# Altium footprint library QUT EESS Footprints.PcbLib: 29 footprints (part 2 of 2)
Each footprint in its own frame and in the unit in brackets; x right, y up, seen from the top. Pads: shape width x height; smd on the part's side, far side on the other; paste and mask are expansions set on the pad; w line width, h text height; cw(c..) or ccw(c..) is an arc to the next point about the centre after c.
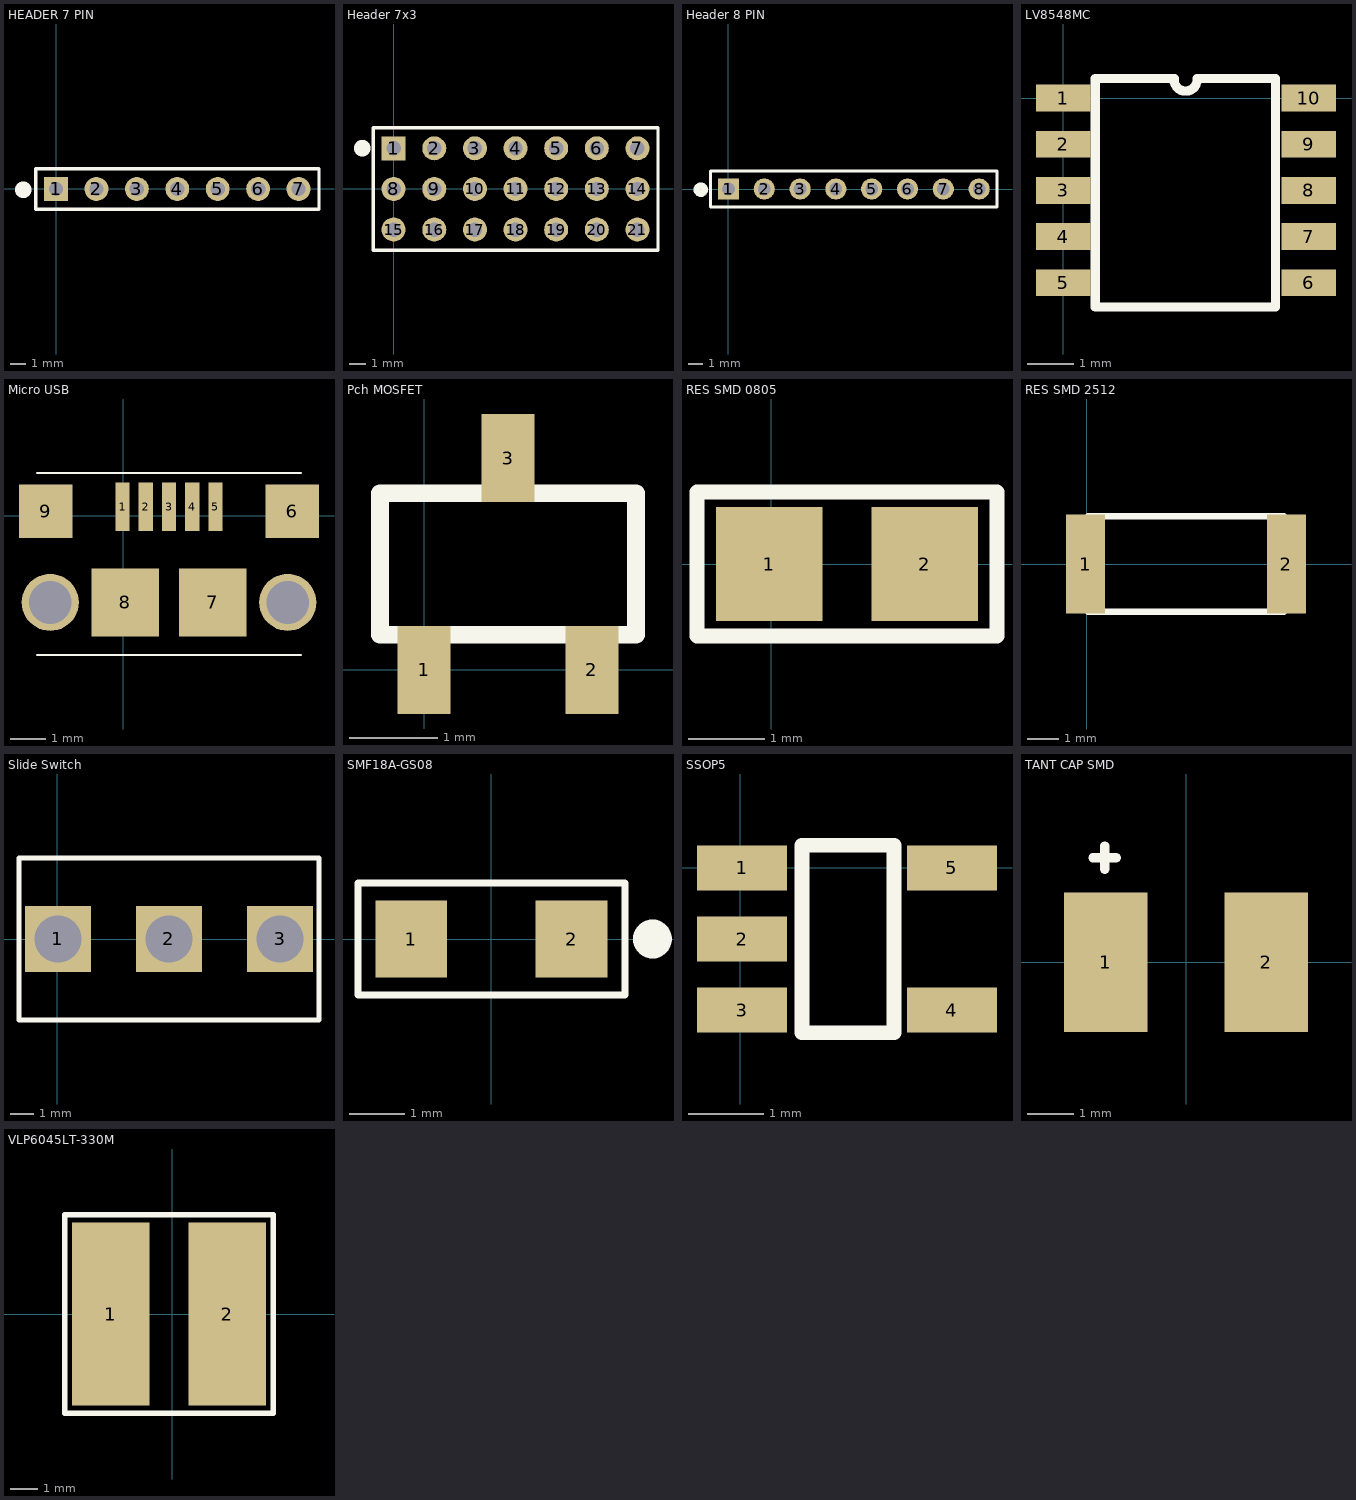
[diagram p1: the footprints below, top view; thin cyan lines are the x and y axes]

## HEADER 7 PIN [mm]
pads (7):
  rect 1.5x1.5 hole 0.9: 1(0,0)
  round 1.5 hole 0.9: 2(2.54,0) 3(5.08,0) 4(7.62,0) 5(10.16,0) 6(12.7,0) 7(15.24,0)
Top Overlay:
  lines w0.2: -1.275,-1.275 16.525,-1.275 16.525,1.27 -1.275,1.27 -1.275,-1.275
  lines w0.5: -1.8,-0.1 cw(c-2.061,-0.052) -1.796,-0.052
3D body: height 8.5, standoff 0, extent -1.4,-1.375 16.65,1.375

## Header 7x3 [mm] "Standard 2.54mm pitch 7x3 pin NOTE PIN NUMBERING"
pads (21):
  rect 1.5x1.5 hole 0.9: 1(0,2.54)
  round 1.5 hole 0.9: 2(2.54,2.54) 3(5.08,2.54) 4(7.62,2.54) 5(10.16,2.54) 6(12.7,2.54) 7(15.24,2.54) 8(0,0) 9(2.54,0) 10(5.08,0) 11(7.62,0) 12(10.16,0) 13(12.7,0) 14(15.24,0) 15(0,-2.54) 16(2.54,-2.54) 17(5.08,-2.54) 18(7.62,-2.54) 19(10.16,-2.54) 20(12.7,-2.54) 21(15.24,-2.54)
Top Overlay:
  lines w0.2: -1.275,-1.28 -1.275,-3.825 16.525,-3.825 16.525,-1.28 ; -1.275,-1.275 -1.275,1.27 ; -1.275,1.275 -1.275,3.82 16.525,3.82 16.525,1.275 ; 16.525,-1.275 16.525,1.27
  lines w0.5: -1.7,2.5 cw(c-1.961,2.548) -1.696,2.548
3D body: height 8.5, standoff 0, extent -1.325,-3.75 16.725,3.75

## Header 8 PIN [mm]
pads (8):
  rect 1.5x1.5 hole 0.9: 1(0,0)
  round 1.5 hole 0.9: 2(2.54,0) 3(5.08,0) 4(7.62,0) 5(10.16,0) 6(12.7,0) 7(15.24,0) 8(17.78,0)
Top Overlay:
  lines w0.2: 19.05,1.27 -1.275,1.27 -1.275,-1.275 19.05,-1.275 19.05,1.275
  lines w0.5: -1.704,-0.098 cw(c-1.966,-0.05) -1.7,-0.05
3D body: height 8.5, standoff -10.46, extent -1.27,-1.27 19.05,1.27

## LV8548MC [mm]
pads (10):
  rect 1.18x0.58 smd: 1(0,0) 2(0,-1) 3(0,-2) 4(0,-3) 5(0,-4) 6(5.32,-4) 7(5.32,-3) 8(5.32,-2) 9(5.32,-1) 10(5.32,0)
Top Overlay:
  lines w0.2: 0.695,-4.525 0.695,0.4 ; 0.695,0.425 2.41,0.425 ; 0.7,-4.525 4.6,-4.525 4.6,0.425 2.9,0.425 ; 2.4,0.4 ccw(c2.65,0.4) 2.9,0.4
3D body: height 1.5, standoff 0, extent 0.6,-4.625 4.7,0.525

## Micro USB [mm]
pads (11):
  rect 0.4x1.35 smd: 1(-0.025,0.25) 2(0.625,0.25) 3(1.275,0.25) 4(1.925,0.25) 5(2.575,0.25)
  rect 1.5x1.5 smd: 6(4.725,0.125) 9(-2.175,0.125)
  rect 1.9x1.9 smd: 7(2.5,-2.425) 8(0.05,-2.425)
  round 1.6 hole 1.2: ""(-2.05,-2.425) ""(4.6,-2.425)
Top Overlay:
  lines w0.05: -2.425,-3.9 1.275,-3.9 4.975,-3.9 ; -2.425,1.2 1.275,1.2 4.975,1.2
3D body: height 2.74, standoff -0.34, extent -2.73,-5.12 5.27,0.48

## Pch MOSFET [mm] "RRR030P03 30V 3A PMOSFET"
pads (3):
  rect 0.6x1 smd: 1(0,0) 2(1.9,0) 3(0.95,2.4)
Top Overlay:
  lines w0.2: -0.5,0.4 -0.5,2 2.4,2 2.4,0.4 -0.5,0.4
3D body: height 1, standoff 0, extent -0.5,0.4 2.4,2

## RES SMD 0805 [mm] "Standard 0805 (imp)/2012 (met) passive footprint"
pads (2):
  rect 1.4x1.5 smd: 1(-0.025,0) 2(2.025,0)
Top Overlay:
  lines w0.2: -0.975,-0.95 -0.975,0.95 2.975,0.95 2.975,-0.95 -0.975,-0.95
3D body: height 0.5, standoff 0, extent 0,-0.625 2,0.625

## RES SMD 2512 [mm] "Standard SMD 2512 footprint"
pads (2):
  rect 1.245x3.175 smd: 1(-0.025,0) 2(6.375,0)
Top Overlay:
  lines w0.2: 0.05,-1.525 6.3,-1.525 6.3,1.525 0.05,1.525 0.05,-1.525
3D body: height 0.55, standoff 0, extent 0.025,-1.55 6.325,1.55

## Slide Switch [mm] "CS12ANW03 Single Pole"
pads (3):
  rect 2.8x2.8 hole 2: 1(0.025,0.025) 2(4.725,0.025) 3(9.425,0.025)
Top Overlay:
  lines w0.2: -1.625,-3.41 -1.625,3.45 11.075,3.45 11.075,-3.41 -1.625,-3.41
3D body: height 13.61, standoff -4.3, extent -2.323,-3.49 11.673,3.825

## SMF18A-GS08 [mm]
pads (2):
  rect 1.3x1.4 smd: 1(-1.45,0) 2(1.45,0)
Top Overlay:
  circle w0.5: c2.91,0 r0.1
  lines w0.127: -2.413,-1.016 -1.27,-1.016 1.27,-1.016 2.413,-1.016 2.413,1.016 1.27,1.016 -1.27,1.016 -2.413,1.016 -2.413,-1.016

## SSOP5 [mm] "Logical OR Gate TC4S71FT5LFT"
pads (5):
  rect 1.2x0.6 smd: 1(0.025,0) 2(0.025,-0.95) 3(0.025,-1.9) 4(2.825,-1.9) 5(2.825,0)
Top Overlay:
  lines w0.2: 0.825,-2.2 2.05,-2.2 2.05,0.3 0.825,0.3 0.825,-2.2
3D body: height 1.1, standoff 0, extent 0.725,-2.3 2.125,0.4

## TANT CAP SMD [mm] "293D156X9025B2TE3 Case B"
height 1.9
pads (2):
  rect 1.8x3 smd: 1(-1.725,0) 2(1.725,0)
Top Overlay:
  lines w0.2: -2,2.25 -1.5,2.25 ; -1.75,2 -1.75,2.5
3D body: height 1.8, standoff 0, extent -1.712,-1.387 1.763,1.388

## VLP6045LT-330M [mm]
pads (2):
  rect 2.8x6.6 smd: 1(-2.225,0) 2(1.975,0)
Top Overlay:
  lines w0.2: -3.875,-3.575 3.625,-3.575 3.625,3.575 -3.875,3.575 -3.875,-3.575
3D body: height 2, standoff 0, extent -3.324,-3.243 3.15,3.244